# EAGLE library part PCA9306 (library 0_jc-custom-eagle6)
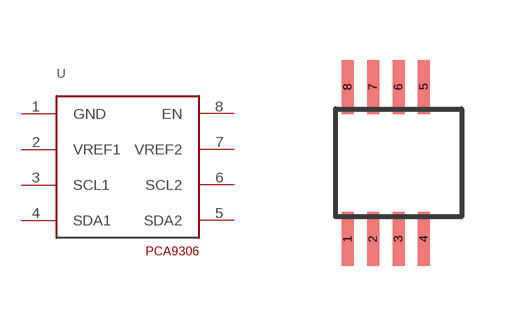
[diagram p4: symbol with the pads of DCT; footprint DCT]

Designator prefix -

## PCA9306DCT  [DCT]
1  GND
2  VREF1
3  SCL1
4  SDA1
5  SDA2
6  SCL2
7  VREF2
8  EN

## Footprint DCT (pad centres in mm)
smd 0.3 x 1.35: 1 -1.27,-1.905; 2 -0.635,-1.905; 3 0,-1.905; 4 0.635,-1.905; 5 0.635,1.905; 6 0,1.905; 7 -0.635,1.905; 8 -1.27,1.905